# Altium footprint library SMC.PcbLib: 1 footprints
Each footprint in its own frame and in the unit in brackets; x right, y up, seen from the top. Pads: shape width x height; smd on the part's side, far side on the other; paste and mask are expansions set on the pad; w line width, h text height; cw(c..) or ccw(c..) is an arc to the next point about the centre after c.
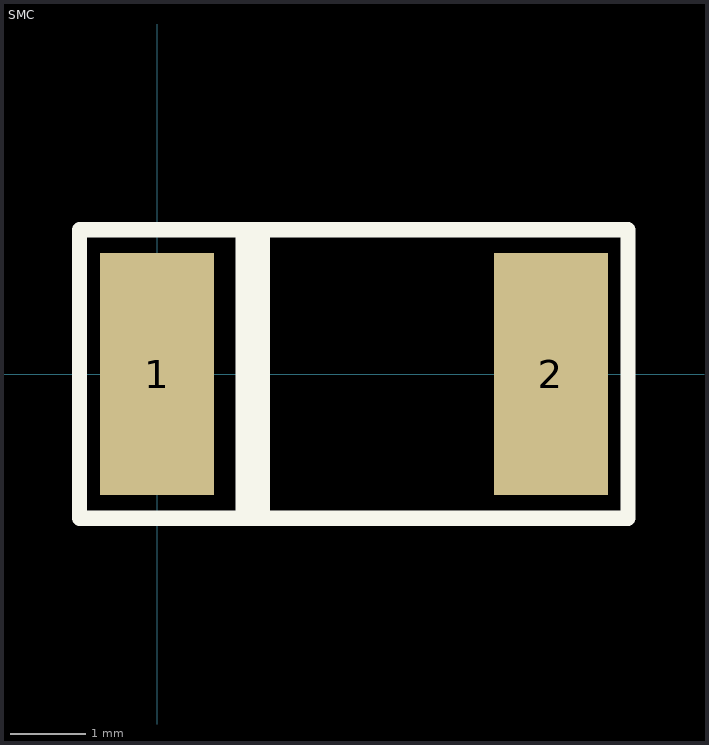
[diagram p0: the footprint, top view; thin cyan lines are the x and y axes]

## SMC [mm]
height 0.102
pads (2):
  rect 1.5x3.2 smd: 1(0,0) 2(5.2,0)
Top Overlay:
  lines w0.2: 1.136,-1.905 1.136,1.905 ; 1.263,-1.778 1.263,1.905 ; 1.39,-1.905 1.39,1.905 ; -1.023,-1.905 -1.023,1.905 6.216,1.905 6.216,-1.905 -1.023,-1.905
3D body "DO-214AC(SMA).STEP": height 2.24, standoff -0.04, extent -0.21,-1.397 5.276,1.397